# Altium schematic symbol library Infineon.SchLib: 1 symbol
Pins are listed as number, name and electrical type; pins without a type are passive.

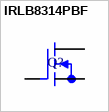
[diagram p0: symbol IRLB8314PBF]

## IRLB8314PBF
designator Q?  (value not drawn)
MOSFET N-CH 30V 184A TO220; Manufacturer: International Rectifier; Manufacturer Part Number: IRLB8314PBF; Rds On Max: 2.4mR; Input Capacitance: 5.05nF; Continuous Drain Current (ID): 130A; Max Power Dissipation: 125W; Supplier 1: Digi-Key; Supplier Part Number 1: IRLB8314PBF-ND; Stock 1: 1101; Pricing 1: 1 = 0.83000, 10 = 0.74500, 100 = 0.53030, 500 = 0.44946, 1000 = 0.36613 (USD); RoHS: Yes; Mount: Through Hole; Case/Package: TO-220-3; Package Quantity: 50; Packaging: Rail/Tube; Drain to Source Voltage (Vdss): 30V; ComponentLink1URL: https://datasheet.ciiva.com/29745/irlb8314pbf-29745643.pdf?src-supplier=Digi-Key; ComponentLink1Description: https://datasheet.ciiva.com/29745/irlb8314pbf-29745643.pdf?src-supplier=Digi-Key
footprint TO220 NMOS
pins: 1 G, 2 D, 3 S